# EAGLE library part TEXAS_TXS0102DCUR (library Mainboard)
2-BIT BIDIRECTIONAL VOLTAGE-LEVEL TRANSLATOR FOR OPEN-DRAIN AND PUSH-PULL APPLICATIONS
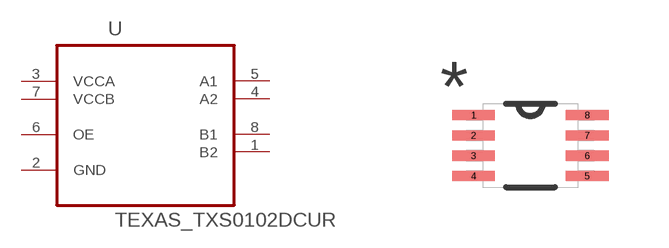
[diagram p11: symbol with the pads of TEXAS_SOP50P310X90-8N; footprint TEXAS_SOP50P310X90-8N]

Designator prefix U

## TEXAS_TXS0102DCUR (MPN: TXS0102DCUR; OC_FARNELL: 1703315; OC_NEWARK: 30M1878; PACKAGE: SOP-8; SUPPLIER: Texas Instruments)  [TEXAS_SOP50P310X90-8N]
1  B2
2  GND  pas
3  VCCA  pwr
4  A2
5  A1
6  OE  in
7  VCCB  pwr
8  B1

## Footprint TEXAS_SOP50P310X90-8N (pad centres in mm)
smd 1.067 x 0.254: 1 -1.422,0.762; 2 -1.422,0.254; 3 -1.422,-0.254; 4 -1.422,-0.762; 5 1.422,-0.762; 6 1.422,-0.254; 7 1.422,0.254; 8 1.422,0.762